# Altium integrated library 28Pins_Project_V1I1.IntLib: 38 symbols
Pins are listed as number, name and electrical type; pins without a type are passive.

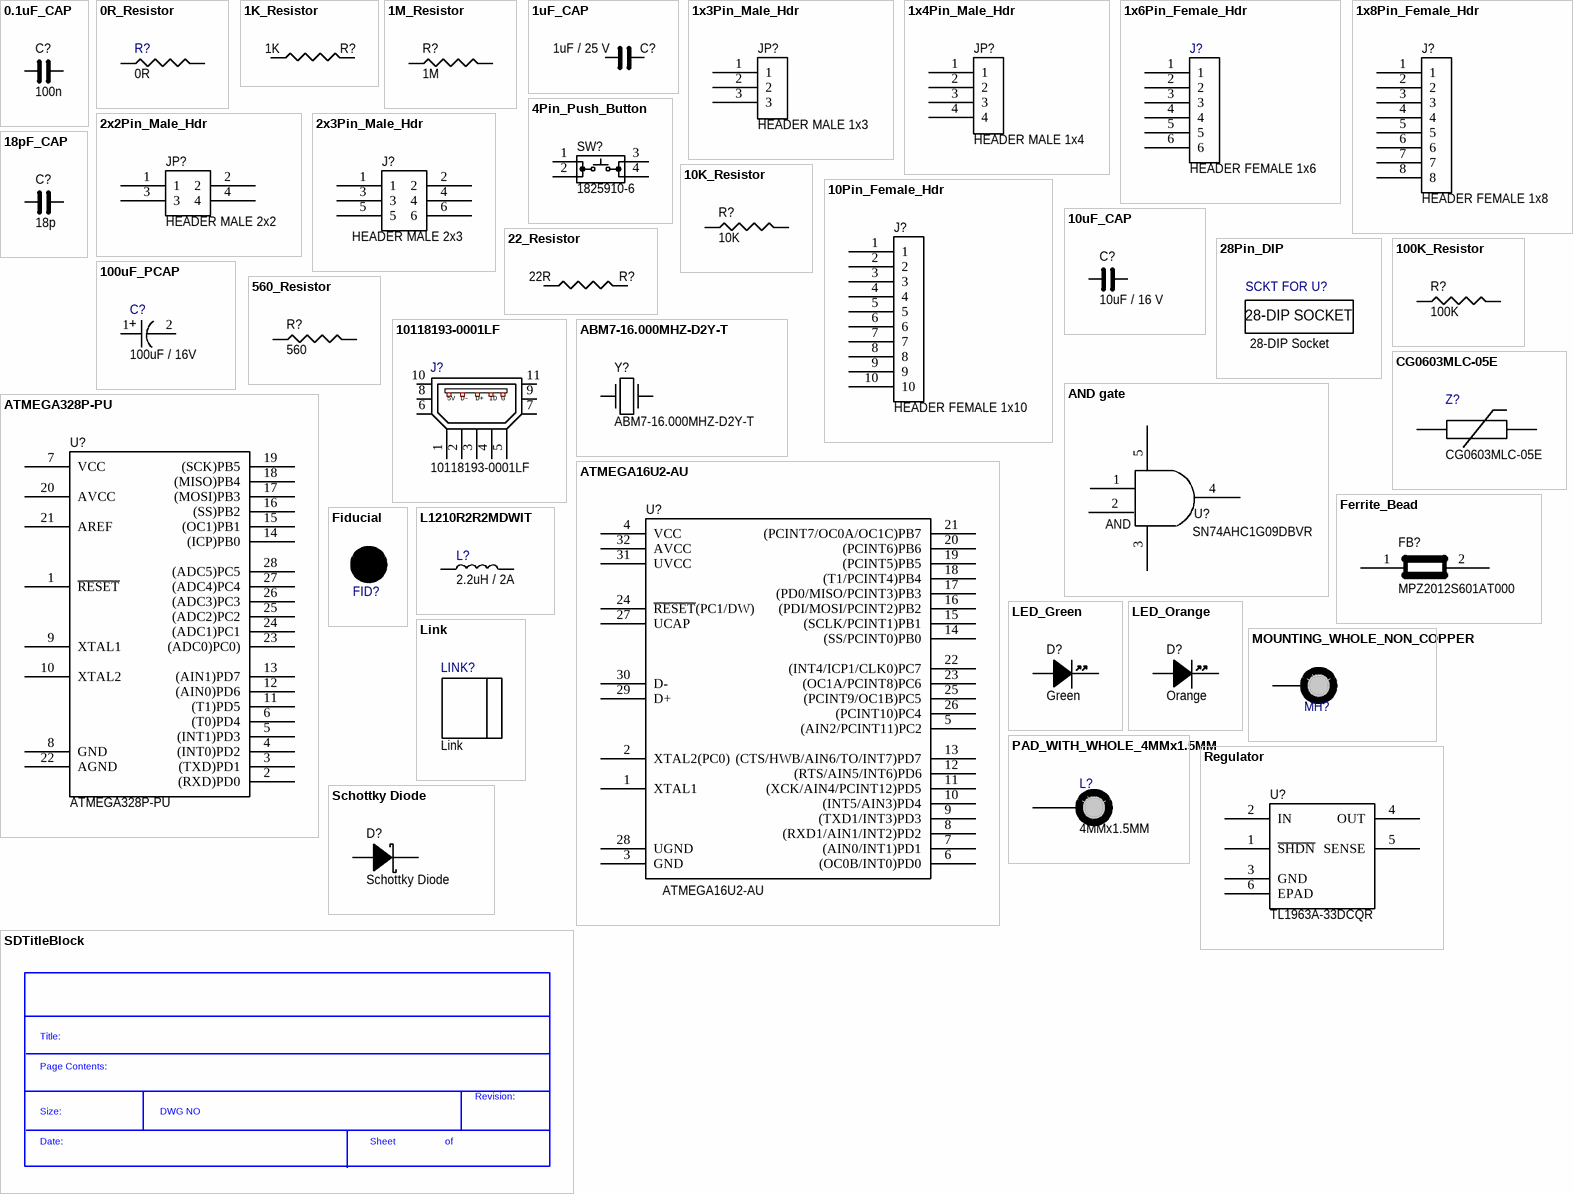
[diagram p0: symbols 0.1uF_CAP to SDTitleBlock]

## 0.1uF_CAP
designator C?, comment 100n
footprint C0805
pins: 1, 2

## 0R_Resistor
designator R?, comment 0R
footprint R0805
pins: 1, 2

## 1K_Resistor
designator R?, comment 1K
footprint R0805
pins: 1, 2

## 1M_Resistor
designator R?, comment 1M
footprint R0805
pins: 1, 2

## 1uF_CAP
designator C?, comment 1uF / 25 V
footprint C0805
pins: 1, 2

## 1x3Pin_Male_Hdr
designator JP?, comment HEADER MALE 1x3
footprint 1x3PIN_MALE_HDR
pins: 1, 2, 3

## 1x4Pin_Male_Hdr
designator JP?, comment HEADER MALE 1x4
footprint 1x4PIN_MALE_HDR
pins: 1, 2, 3, 4

## 1x6Pin_Female_Hdr
designator J?, comment HEADER FEMALE 1x6
footprint 1x6PIN_FEMALE_HDR
pins: 1, 2, 3, 4, 5, 6

## 1x8Pin_Female_Hdr
designator J?, comment HEADER FEMALE 1x8
footprint 1x8PIN_FEMALE_HDR
pins: 1, 2, 3, 4, 5, 6, 7, 8

## 2x2Pin_Male_Hdr
designator JP?, comment HEADER MALE 2x2
footprint 2x2PIN_MALE_HDR
pins: 1, 2, 3, 4

## 2x3Pin_Male_Hdr
designator J?, comment HEADER MALE 2x3
footprint 2x3PIN_MALE_HDR
pins: 1, 2, 3, 4, 5, 6

## 4Pin_Push_Button
designator SW?, comment 1825910-6
Push_Button
footprint 4PIN_BUTTON
pins: 1, 2, 3, 4

## 10K_Resistor
designator R?, comment 10K
footprint R0805
pins: 1, 2

## 10Pin_Female_Hdr
designator J?, comment HEADER FEMALE 1x10
footprint 1x10PIN_FEMALE_HDR
pins: 1, 2, 3, 4, 5, 6, 7, 8, 9, 10

## 10uF_CAP
designator C?, comment 10uF / 16 V
footprint C0805
pins: 1, 2

## 18pF_CAP
designator C?, comment 18p
footprint C0805
pins: 1, 2

## 22_Resistor
designator R?, comment 22R
footprint R0805
pins: 1, 2

## 28Pin_DIP
designator SCKT FOR U?, comment 28-DIP Socket
footprint 28-DIP_SCKT
text: 28-DIP SOCKET

## 100K_Resistor
designator R?, comment 100K
footprint R0805
pins: 1, 2

## 100uF_PCAP
designator C?, comment 100uF / 16V
footprint C_ALU_C_SIZE
pins: 1, 2

## 560_Resistor
designator R?, comment 560
footprint R0805
pins: 1, 2

## 10118193-0001LF
designator J?
Right Angle Surface Mount Mount Female USB Connector 100 V ac 1.8A; Manufacturer: Amphenol ICC; Supplier 1: Allied; Manufacturer Part Number: 10118193-0001LF; RoHS: No; Stock 1: 6540; Pricing 1: 1=0.2919, 25=0.2747, 100=0.2661, 250=0.2318, 500=0.2276 (USD); ComponentLink1URL: https://www.alliedelec.com/m/d/e03afc8e486ea55a2b0205fb8203b916.pdf; ComponentLink1Description: https://www.alliedelec.com/m/d/e03afc8e486ea55a2b0205fb8203b916.pdf; ComponentLink2URL: https://www.alliedelec.com/amphenolicc-10118193-0001lf/70236827/; ComponentLink2Description: https://www.alliedelec.com/amphenolicc-10118193-0001lf/70236827/; Supplier Part Number 1: 70236827
footprint USB_SOP
pins: 1, 2, 3, 4, 5, 6, 7, 8, 9, 10, 11
text: 5V; D-; D+; ID; G

## ABM7-16.000MHZ-D2Y-T
designator Y?
Crystal; Ceramic; 16.000MHZ; 18pf; 20ppm @ 25C; 30ppm -40+85C; 6.0 x 3.5 x 1.2mm; T/R; Manufacturer: Abracon; Supplier 1: Allied; RoHS: No; Stock 1: 0; Pricing 1: 1000=0.5800 (USD); ComponentLink1URL: https://www.alliedelec.com; ComponentLink1Description: https://www.alliedelec.com; ComponentLink2URL: https://www.alliedelec.com/abracon-abm7-16-000mhz-d2y-t/71528095/; ComponentLink2Description: https://www.alliedelec.com/abracon-abm7-16-000mhz-d2y-t/71528095/; Supplier Part Number 1: 71528095; Manufacturer Part Number: ABM7-16.000MHZ-D2Y-T
footprint AMB7_V1
pins: 1, 2

## AND gate
designator U?, comment SN74AHC1G09DBVR
footprint DBV_SOP_23_5
pins: 1, 2, 3, 4, 5
text: AND

## ATMEGA16U2-AU
designator U?
footprint TQFP32
pins: 1 XTAL1, 2 XTAL2(PC0), 3 GND, 4 VCC, 5 (AIN2/PCINT11)PC2, 6 (OC0B/INT0)PD0, 7 (AIN0/INT1)PD1, 8 (RXD1/AIN1/INT2)PD2, 9 (TXD1/INT3)PD3, 10 (INT5/AIN3)PD4, 11 (XCK/AIN4/PCINT12)PD5, 12 (RTS/AIN5/INT6)PD6, 13 (CTS/HWB/AIN6/TO/INT7)PD7, 14 (SS/PCINT0)PB0, 15 (SCLK/PCINT1)PB1, 16 (PDI/MOSI/PCINT2)PB2, 17 (PD0/MISO/PCINT3)PB3, 18 (T1/PCINT4)PB4, 19 (PCINT5)PB5, 20 (PCINT6)PB6, 21 (PCINT7/OC0A/OC1C)PB7, 22 (INT4/ICP1/CLK0)PC7, 23 (OC1A/PCINT8)PC6, 24 ~{RESET}(PC1/DW), 25 (PCINT9/OC1B)PC5, 26 (PCINT10)PC4, 27 UCAP, 28 UGND, 29 D+, 30 D-, 31 UVCC, 32 AVCC

## ATMEGA328P-PU
designator U?
ATMEGA328P-PU; 8 bit Microcontroller AVR 20MHz 1; 32kb Flash; 2kb RAM; I2C SPI 2; Manufacturer: Microchip Technology Inc.; Supplier 1: Allied; RoHS: No; Stock 1: 0; Pricing 1: 1=5.1200, 5=4.6100, 10=4.1800, 25=3.8300, 100=3.5500 (USD); ComponentLink1URL: https://www.alliedelec.com/m/d/768ce6a229d36838fb8bd4dcb29bd26e.pdf; ComponentLink1Description: https://www.alliedelec.com/m/d/768ce6a229d36838fb8bd4dcb29bd26e.pdf; ComponentLink2URL: https://www.alliedelec.com/microchiptechnologyinc-atmega328p-pu/70332157/; ComponentLink2Description: https://www.alliedelec.com/microchiptechnologyinc-atmega328p-pu/70332157/; Supplier Part Number 1: 70332157; Manufacturer Part Number: ATMEGA328P-PU
footprint 28_DIP_U1
pins: 1 ~{RESET}, 2 (RXD)PD0, 3 (TXD)PD1, 4 (INT0)PD2, 5 (INT1)PD3, 6 (T0)PD4, 7 VCC, 8 GND, 9 XTAL1, 10 XTAL2, 11 (T1)PD5, 12 (AIN0)PD6, 13 (AIN1)PD7, 14 (ICP)PB0, 15 (OC1)PB1, 16 (SS)PB2, 17 (MOSI)PB3, 18 (MISO)PB4, 19 (SCK)PB5, 20 AVCC, 21 AREF, 22 AGND, 23 (ADC0)PC0), 24 (ADC1)PC1, 25 (ADC2)PC2, 26 (ADC3)PC3, 27 (ADC4)PC4, 28 (ADC5)PC5

## CG0603MLC-05E
designator Z?
Varistor; ESD Clamp Protector; 5 VDC; 20 Vclamp; IEC 61000-4-2 Level 4; 0603 SMD; Manufacturer: Bourns; Supplier 1: Allied; Manufacturer Part Number: CG0603MLC-05E; RoHS: No; Stock 1: 7999; Pricing 1: 1=0.1100, 1250=0.1067, 2500=0.1012, 12500=0.0946, 25000=0.0869, 125000=0.0682 (USD); ComponentLink1URL: https://www.alliedelec.com/m/d/c74d21cd372fe06fa9c5b8b4ec8a7246.pdf; ComponentLink1Description: https://www.alliedelec.com/m/d/c74d21cd372fe06fa9c5b8b4ec8a7246.pdf; ComponentLink2URL: https://www.alliedelec.com/bourns-cg0603mlc-05e/70153503/; ComponentLink2Description: https://www.alliedelec.com/bourns-cg0603mlc-05e/70153503/; Supplier Part Number 1: 70153503
footprint R0603
pins: 1, 2

## Ferrite_Bead
designator FB?, comment MPZ2012S601AT000
footprint C0805
pins: 1, 2

## Fiducial
designator FID?, comment FID_1mm  (value not drawn)  (no BOM)
Fiducial 40mil diameter
footprint FID_40x1120

## L1210R2R2MDWIT
designator L?, comment 2.2uH / 2A
Inductor
footprint L1210
pins: 1, 2

## LED_Green
designator D?, comment Green
footprint LED0603
pins: 1 Cathode, 2 Anode

## LED_Orange
designator D?, comment Orange
footprint LED0603
pins: 1 Cathode, 2 Anode

## Link
designator LINK?  (mechanical)
CONN JUMPER

## MOUNTING_WHOLE_NON_COPPER
designator MH?, comment Mounting Whole 3.4mmx3.2mm  (value not drawn)  (no BOM)
footprint MOUNTING_WHOLE_NON_COPPER
pins: 1

## PAD_WITH_WHOLE_4MMx1.5MM
designator L?, comment 4MMx1.5MM  (no BOM)
footprint PADS_WITH_WHOLE_4mmx1.5mm
pins: 1

## Regulator
designator U?, comment TL1963A-33DCQR
footprint DCQR R-PDSO-G6
pins: 1 ~{SHDN}, 2 IN, 3 GND, 4 OUT, 5 SENSE, 6 EPAD

## Schottky Diode
designator D?
Diode,Schottky Barrier,Fast,Vr 30V,If 200mA,Pkg SOD-323,Vf 0.52VDC,Trr 5ns; Manufacturer: ON Semiconductor; Manufacturer Part Number: BAT54HT1G; Supplier 1: Allied; RoHS: No; Stock 1: 4340; Pricing 1: 10=0.0946, 100=0.0936, 250=0.0927 (USD); ComponentLink1URL: https://www.alliedelec.com/m/d/32ed7fc37a0b4f97ae8b34bd526f7e4f.pdf; ComponentLink1Description: https://www.alliedelec.com/m/d/32ed7fc37a0b4f97ae8b34bd526f7e4f.pdf; ComponentLink2URL: https://www.alliedelec.com/onsemiconductor-bat54ht1g/70099482/; ComponentLink2Description: https://www.alliedelec.com/onsemiconductor-bat54ht1g/70099482/; Supplier Part Number 1: 70099482
footprint SOD323
pins: 1 Cathode, 2 Anode

## SDTitleBlock
designator *?  (value not drawn)  (graphical)
text: Title:; Page Contents:; Revision:; Size:; DWG NO; Date:; Sheet; of